# Altium schematic symbol library 2021-03-13_11-03-02.SchLib: 2 symbols
Pins are listed as number, name and electrical type; pins without a type are passive.

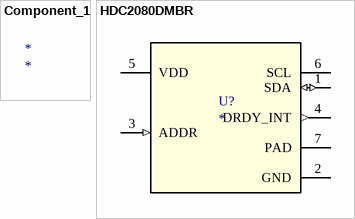
[diagram p0: symbols Component_1 to HDC2080DMBR]

## Component_1
designator *

## HDC2080DMBR
designator U?
No Description Available; Manufacturer: Texas Instruments; PartNumber: HDC2080DMBR; RefDes: RefDes; Type: DEV; Value: Value; Copyright: Copyright (C) 2018 Accelerated Designs. All rights reserved
footprint DMB0006A
pins: 1 SDA (io), 2 GND (power), 3 ADDR (in), 4 DRDY_INT (out), 5 VDD (power), 6 SCL (oc), 7 PAD